# Altium schematic symbol library HIH-5030-001.SchLib: 1 symbol
Pins are listed as number, name and electrical type; pins without a type are passive.

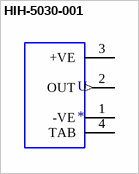
[diagram p0: symbol HIH-5030-001]

## HIH-5030-001
designator U
Humidity Temperature Sensor 0 ~ 100% RH Analog Voltage Â±3% RH 5s Surface Mount; MP: HIH-5030-001; MF: Honeywell Sensing; Value: *; Package: Housed Sensor Honeywell Sensing; SnapEDA_Link: https://www.snapeda.com/parts/HIH-5030-001/Honeywell%20Sensing%20and%20Productivity%20Solutions/view-part/269223/?ref=snap; Digi-Key_Part_Number: 480-3294-1-ND; Digi-Key_Purchase_URL: https://www.digikey.com/product-detail/en/honeywell-sensing-and-productivity-solutions/HIH-5030-001/480-3294-1-ND/2061078?utm_source=snapeda&utm_medium=aggregator&utm_campaign=symbol
footprint HONEYWELL_HIH-5030-001
pins: 1 -VE (power), 2 OUT (out), 3 +VE (power), 4 TAB